# Altium schematic symbol library SCH - MCU - NUVOTON - NUVOTON ML51DB9AE.SchLib: 1 symbol
Pins are listed as number, name and electrical type; pins without a type are passive.

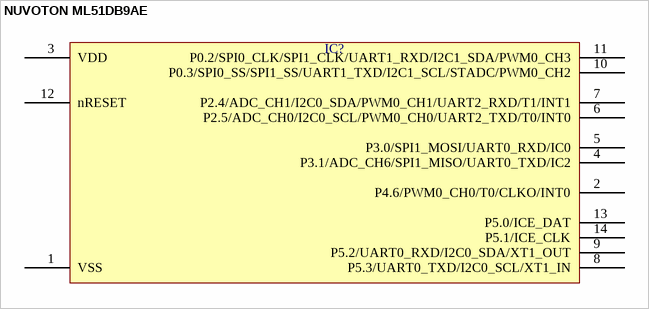
[diagram p0: symbol NUVOTON ML51DB9AE]

## NUVOTON ML51DB9AE
designator IC?  (value not drawn)
pins: 1 VSS, 2 P4.6/PWM0_CH0/T0/CLKO/INT0, 3 VDD, 4 P3.1/ADC_CH6/SPI1_MISO/UART0_TXD/IC2, 5 P3.0/SPI1_MOSI/UART0_RXD/IC0, 6 P2.5/ADC_CH0/I2C0_SCL/PWM0_CH0/UART2_TXD/T0/INT0, 7 P2.4/ADC_CH1/I2C0_SDA/PWM0_CH1/UART2_RXD/T1/INT1, 8 P5.3/UART0_TXD/I2C0_SCL/XT1_IN, 9 P5.2/UART0_RXD/I2C0_SDA/XT1_OUT, 10 P0.3/SPI0_SS/SPI1_SS/UART1_TXD/I2C1_SCL/STADC/PWM0_CH2, 11 P0.2/SPI0_CLK/SPI1_CLK/UART1_RXD/I2C1_SDA/PWM0_CH3, 12 nRESET, 13 P5.0/ICE_DAT, 14 P5.1/ICE_CLK